# EAGLE library part RFM95PW-868S2 (library RFM95)
Mod Txrx Lora +20dbm 868mhz Smd
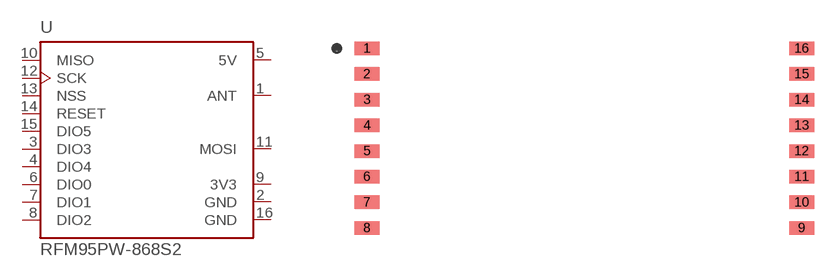
[diagram p1: symbol with the pads of XCVR_RFM95PW-868S2; footprint XCVR_RFM95PW-868S2]

Designator prefix U

## RFM95PW-868S2PW  [XCVR_RFM95PW-868S2]
1  ANT  pas
2  GND  pwr
3  DIO3
4  DIO4
5  5V  pwr
6  DIO0
7  DIO1
8  DIO2
9  3V3  pwr
10  MISO  in
11  MOSI  out
12  SCK  in
13  NSS  in
14  RESET
15  DIO5
16  GND  pwr

## Footprint XCVR_RFM95PW-868S2 (pad centres in mm)
smd 1.95 x 1.05: 1 -7.4,7; 2 -7.4,5; 3 -7.4,3; 4 -7.4,1; 5 -7.4,-1; 6 -7.4,-3; 7 -7.4,-5; 8 -7.4,-7; 9 26.45,-7; 10 26.45,-5; 11 26.45,-3; 12 26.45,-1; 13 26.45,1; 14 26.45,3; 15 26.45,5; 16 26.45,7